# EAGLE library part 6620XX231722_662014231722 (library WR-MPC3)
WR-MPC3 3.00 mm SMT Male Dual Row Angled Header with SMT Solder Tab KIND PROPERTIES Pitch 3 mm Gender Male MATERIAL PROPERTIES Insulator Material LCP Insulator Flammability Rating UL94 V-0 Insulator Color Black Contact Material Copper Alloy Contact Plating Tin Contact Type Stamped GENERAL INFORMATION Operating Temperature -40 up to +105 °C Compliance:RoHS Working Voltage 250 V (AC) Withstanding Voltage 1500 V (AC) Contact Resistance 10 mΩ RISO 1000 MΩ CERTIFICATION UL Approval E323964 WIRE PROPERTIES Packaging Tray <https://katalog.we-online.com/media/images/v2/o33176v209%20Family_WR-MPC3_662xxx231722.jpg> Details see: https://katalog.we-online.com/en/em/MPC3_3_00_SMT_MALE_DUAL_ROW_ANGLED_HEADER_W_SMT_SOLDER_TAB_6620XX231722 Created by Yingchun,Shan 2019-11-14 2019 (C) Würth Elektronik
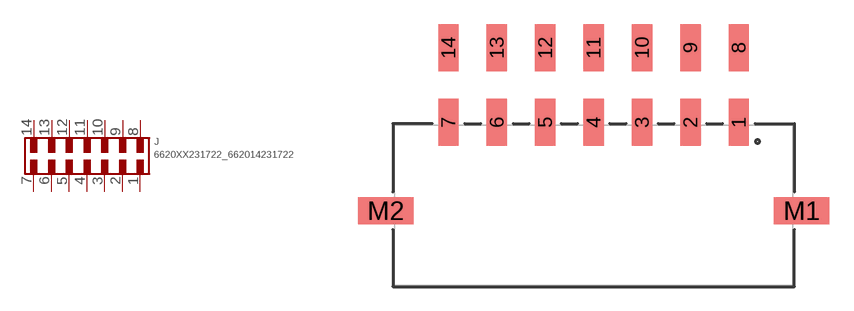
[diagram p21: symbol with the pads of 662014231722; footprint 662014231722]

Designator prefix J

## 6620XX231722_662014231722 (CONTACT-RESISTANCE: 10Ohm; DATASHEET-URL: https://www.we-online.com/redexpert/spec/662014231722?ae; GENDER: Male; IR: 5A; MOUNT: SMT; PART-NUMBER: 662014231722; PINS: 14; PITCH: 3mm; ROWS: Dual; TOL-R: max.; TYPE: Right Angled; VALUE: 662014231722; WORKING-VOLTAGE: 250V(AC))  [662014231722]
1  1  pas
2  2  pas
3  3  pas
4  4  pas
5  5  pas
6  6  pas
7  7  pas
8  8  pas
9  9  pas
10  10  pas
11  11  pas
12  12  pas
13  13  pas
14  14  pas

## Footprint 662014231722 (pad centres in mm)
WR-MPC3 3.00 mm SMT Male Dual Row Angled Header with SMT Solder Tab,14 Pins
smd 1.27 x 2.92: 1 9,5.13; 2 6,5.13; 3 3,5.13; 4 0,5.13; 5 -3,5.13; 6 -6,5.13; 7 -9,5.13; 8 9,9.75; 9 6,9.75; 10 3,9.75; 11 0,9.75; 12 -3,9.75; 13 -6,9.75; 14 -9,9.75
smd 3.43 x 1.65: M1 12.895,-0.35; M2 -12.895,-0.35